# Altium schematic symbol library TPA6120A2.SchLib: 1 symbol
Pins are listed as number, name and electrical type; pins without a type are passive.

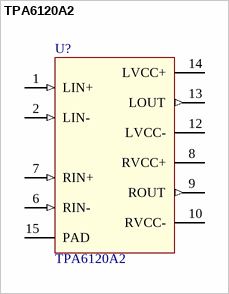
[diagram p0: symbol TPA6120A2]

## TPA6120A2
designator U?
High Fidelity Headphone Amplifier; value: TPA6138A2PW
footprint PVQFN-14 (PVQFN, 14-Leads, Body 3,50x3,50mm, Pitch 0,50mm, Thermal Pad 2,00x2,00mm, IPC Medium Density)
pins: 1 LIN+ (in), 2 LIN- (in), 6 RIN- (in), 7 RIN+ (in), 8 RVCC+ (power), 9 ROUT (out), 10 RVCC- (power), 12 LVCC- (power), 13 LOUT (out), 14 LVCC+ (power), 15 PAD